# EAGLE library part SD-105162 (library STAC)
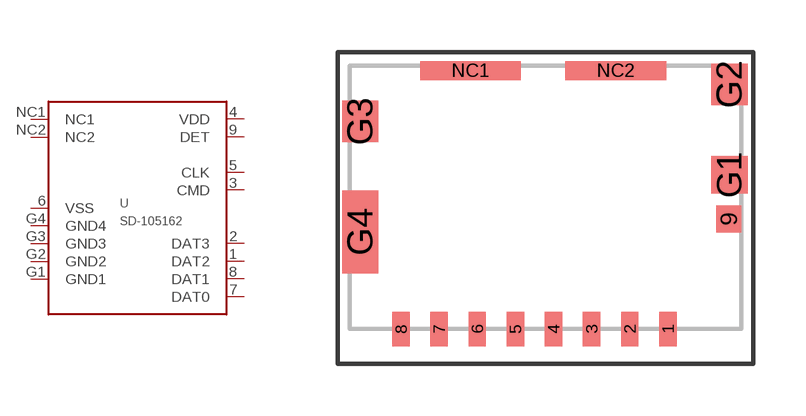
[diagram p5: symbol with the pads of SD-105162; footprint SD-105162]

Designator prefix U

## SD-105162  [SD-105162]
1  DAT2
2  DAT3
3  CMD
4  VDD
5  CLK
6  VSS
7  DAT0
8  DAT1
9  DET
G1  GND1
G2  GND2
G3  GND3
G4  GND4
NC1  NC1
NC2  NC2

## Footprint SD-105162 (pad centres in mm)
smd 0.5 x 1: 1 3.53,0; 2 2.43,0; 3 1.33,0; 4 0.23,0; 5 -0.87,0; 6 -1.97,0; 7 -3.07,0; 8 -4.17,0
smd 0.72 x 0.78: 9 5.29,3.18
smd 1.05 x 1.08: G1 5.305,4.45
smd 1.05 x 1.2: G2 5.305,7.06; G3 -5.345,5.99
smd 1.05 x 2.39: G4 -5.345,2.805
smd 2.91 x 0.55: NC1 -2.165,7.46; NC2 2.025,7.46